# Altium integrated library Linear Technology Power Management System Supervisor, Monitor and Control.IntLib: 1611 symbols (part 86 of 100)
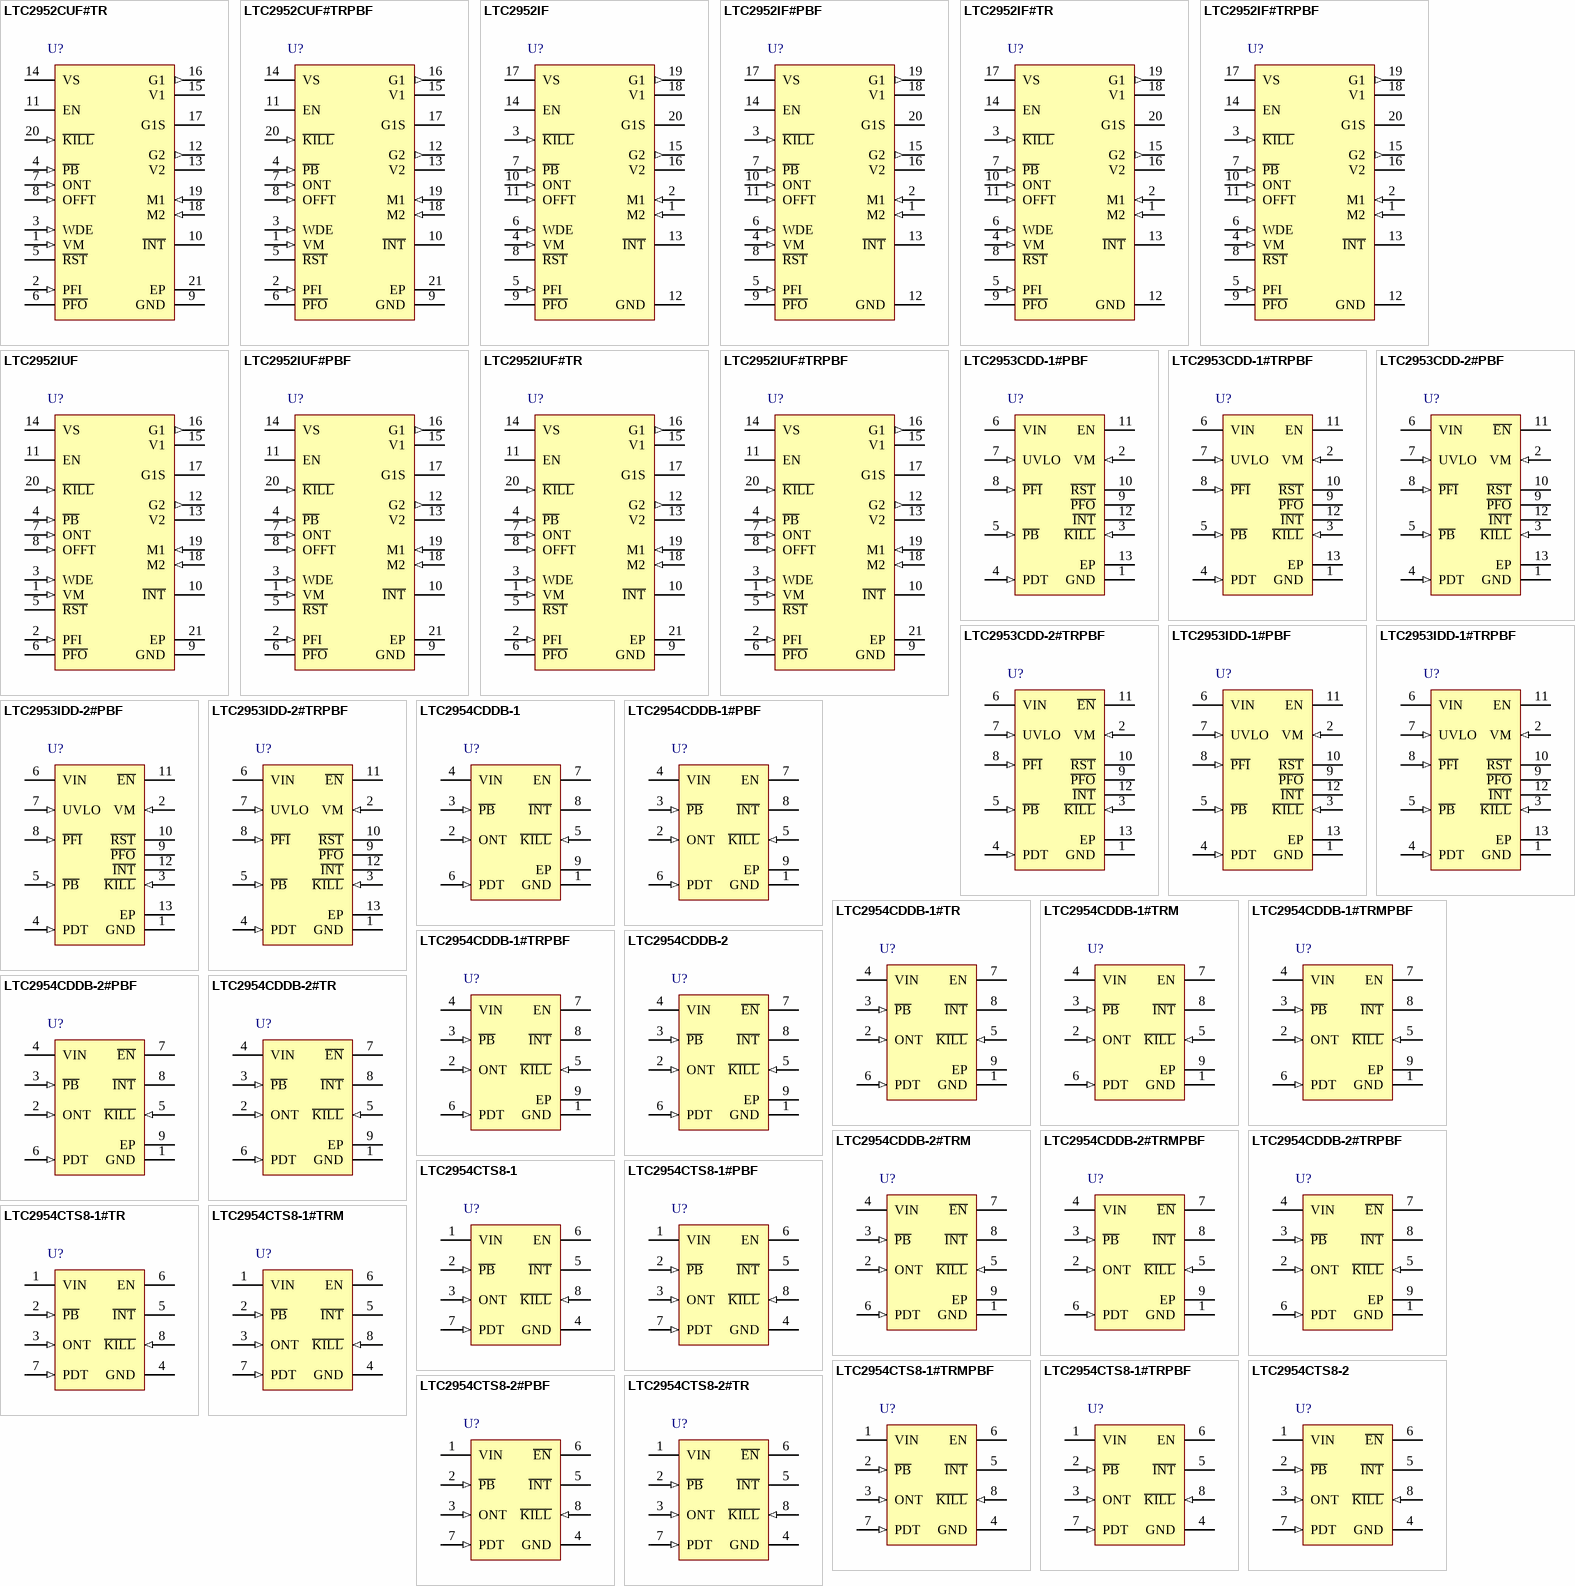
[diagram p130: symbols LTC2952CUF#TR to LTC2954CTS8-2#TR]

## LTC2952CUF#TR
designator U?
Push Button PowerPath Controller with Supervisor, 20-pin QFN (UF-20), 0 to 70 degC, Tape and Reel; Manufacturer: Linear Technology; PartNumber: LTC2952CUF#TR; Number of Supplies(#): 1; DatasheetVersion: Rev. B; PackageVersion: Rev. A, 10/2010; PackageReference: UF20; PackageDescription: 20-Pin Plastic QFN, Body 4 x 4 mm, Pitch 0.5 mm; Packing: Tape and Reel; RoHS: FALSE; Mounting Technology: Surface Mount; Code_JEDEC: MO-220; ComponentLink1Description: Manufacturer URL; ComponentLink1URL: http://www.linear.com/; ComponentLink2Description: Datasheet; ComponentLink2URL: http://cds.linear.com/docs/en/datasheet/2952fb.pdf; ComponentLink3Description: Package Specification; ComponentLink3URL: http://cds.linear.com/docs/en/packaging/QFN_20_05-08-1710.pdf
footprint LT-UF-20_N (QFN, 20-Leads, Body 4.1x4.1mm, Pitch 0.5mm, Thermal Pad 2.45x2.45mm, IPC Medium Density)
footprint LT-UF-20_L (QFN, 20-Leads, Body 4.1x4.1mm, Pitch 0.5mm, Thermal Pad 2.45x2.45mm, IPC High Density)
footprint LT-UF-20_M (QFN, 20-Leads, Body 4.1x4.1mm, Pitch 0.5mm, Thermal Pad 2.45x2.45mm, IPC Low Density)
pins: 1 VM (in) "Voltage Monitor Input. High impedance input to an accurate comparator with a 0.5V threshold. Together with the WDE pin controls the state of the R\S\T\ output pin. Tie to device GND if voltage monitoring function is not used.", 2 PFI (in) "Power Fail Input. High impedance input to an accurate comparator with a 0.5V falling threshold and 15mV hysteresis. This pin controls the state of the P\F\O\ output pin. Tie to device GND if power fail monitoring function is (See Datasheet)", 3 WDE (in) "Watchdog/Extend Input. A three-state input pin. A rising or falling edge must occur on this pin within a 1.6s watchdog timeout period (while the R\S\T\ output is high impedance), to prevent the R\S\T\ pin from going low. The (See Datasheet)", 4 ~{PB} (in) "Pushbutton Input. Input to a comparator with 0.775V falling threshold and 25mV hysteresis. P\B\ has a 10uA internal pull-up to an internal supply (4V). This pin provides on/off power supply control via the EN pin, which is (See Datasheet)", 5 ~{RST} (hiz) "Reset Output. This pin is an open-drain pull-down. Pulls low when VM input is below 0.5V and held low for 200ms after VM input is above 0.5V. Also pulls low for 200ms when the watchdog timer (1.6s) is allowed to time out. (See Datasheet)", 6 ~{PFO} (hiz) "Power Fail Output. This pin is an opendrain pull-down which pulls low when the PFI input is below 0.5V. Leave this pin open or tied to GND if power fail monitoring function is not used.", 7 ONT (in) "On Timing Input. Attach 110pF of external capacitance (CONT) to GND for each additional millisecond of turn-on debounce time beyond the internally set 26ms. Leave open if additional debounce time is not needed.", 8 OFFT (in) "Off Timing Input. Attach 110pF of external capacitance (COFFT) to GND for each additional millisecond of turn-off debounce time beyond the internally set 26ms. Leave open if additional debounce time is not needed.", 9 GND (power) "Device Ground.", 10 ~{INT} (hiz) "Interrupt Output. This pin is an open-drain pull-down pin used to signal the system that a power shutdown is imminent. The I\N\T\ pin asserts low 26ms after the initial falling edge of the pushbutton off event and during the (See Datasheet)", 11 EN (hiz) "DC/DC Enable Output. This pin is a high voltage open-drain pull-down used to control system power. EN pin goes high impedance after an initial turn-on command (via either the digital on or a valid pushbutton on-refer to the (See Datasheet)", 12 G2 (out) "Secondary P-Channel MOSFET Gate Drive Output. When the secondary ideal diode function is enabled and in regulation, the ideal diode controller drives this pin to maintain a forward voltage (VFR) of 20mV between the V2 and VS (See Datasheet)", 13 V2 (power) "Secondary Input Supply Voltage: 2.7V to 28V. Supplies power to the internal circuitry and is the anode input of the secondary ideal diode driver (the cathode input to the ideal diode drivers is the VS pin). A secondary power (See Datasheet)", 14 VS (power) "Power Sense Input. This pin supplies power to the internal circuitry and is the cathode input to the ideal diode drivers (the anode inputs to the ideal diode drivers are the V1 and V2 pins). Bypass this pin to ground with (See Datasheet)", 15 V1 (power) "Primary Input Supply Voltage: 2.7V to 28V. Supplies power to the internal circuitry and is the anode input of the primary ideal diode driver (the cathode input to the ideal diode drivers is the VS pin). A battery or other (See Datasheet)", 16 G1 (out) "Primary P-Channel MOSFET Gate Drive Output. When the primary ideal diode function is enabled and in regulation, the ideal diode controller drives this pin to maintain a forward voltage (VFR) of 20mV between the V1 and VS (See Datasheet)", 17 G1S (hiz) "Open-Drain Primary Ideal Diode Status Output. When the primary P-channel power switch is off, the G1STAT pin will go from an open state to a strong pull-down. This pin can be used to signal the state of the primary ideal (See Datasheet)", 18 M2 (in) "Mode Select Input 2. High impedance input to an accurate comparator with 0.5V falling threshold and 15mV hysteresis. When M1 is low, M2 controls whether the primary (G1) ideal diode function is enabled. When M1 is high, M2 (See Datasheet)", 19 M1 (in) "Mode Select Input 1. Input to an accurate comparator with 0.5V falling threshold and 15mV hysteresis. Has a 3uA internal pull-up to an internal supply (4V). Together with M2 determines the ideal PowerPath and on/off control (See Datasheet)", 20 ~{KILL} (in) "System Power Shutdown Input. Setting this pin low asserts the EN pin low. In modes where M1 is above threshold, setting this pin low also shuts off the ideal diodes. During system turn-on, input to this pin is ignored until (See Datasheet)", 21 EP (power) "The exposed pad may be left open or connected to device ground."

## LTC2952CUF#TRPBF
designator U?
Push Button PowerPath Controller with Supervisor, 20-pin QFN (UF-20), 0 to 70 degC, Pb-Free, Tape and Reel; Manufacturer: Linear Technology; PartNumber: LTC2952CUF#TRPBF; Number of Supplies(#): 1; DatasheetVersion: Rev. B; PackageVersion: Rev. A, 10/2010; PackageReference: UF20; PackageDescription: 20-Pin Plastic QFN, Body 4 x 4 mm, Pitch 0.5 mm; Supplier 1: Digi-Key; Supplier Part Number 1: LTC2952CUF#TRPBF-ND; Supplier 2: Newark; Supplier Part Number 2: 56M7240; Packing: Tape and Reel; RoHS: TRUE; Mounting Technology: Surface Mount; Code_JEDEC: MO-220; ComponentLink1Description: Manufacturer URL; ComponentLink1URL: http://www.linear.com/; ComponentLink2Description: Datasheet; ComponentLink2URL: http://cds.linear.com/docs/en/datasheet/2952fb.pdf; ComponentLink3Description: Package Specification; ComponentLink3URL: http://cds.linear.com/docs/en/packaging/QFN_20_05-08-1710.pdf
footprint LT-UF-20_N (QFN, 20-Leads, Body 4.1x4.1mm, Pitch 0.5mm, Thermal Pad 2.45x2.45mm, IPC Medium Density)
footprint LT-UF-20_L (QFN, 20-Leads, Body 4.1x4.1mm, Pitch 0.5mm, Thermal Pad 2.45x2.45mm, IPC High Density)
footprint LT-UF-20_M (QFN, 20-Leads, Body 4.1x4.1mm, Pitch 0.5mm, Thermal Pad 2.45x2.45mm, IPC Low Density)
pins: 1 VM (in) "Voltage Monitor Input. High impedance input to an accurate comparator with a 0.5V threshold. Together with the WDE pin controls the state of the R\S\T\ output pin. Tie to device GND if voltage monitoring function is not used.", 2 PFI (in) "Power Fail Input. High impedance input to an accurate comparator with a 0.5V falling threshold and 15mV hysteresis. This pin controls the state of the P\F\O\ output pin. Tie to device GND if power fail monitoring function is (See Datasheet)", 3 WDE (in) "Watchdog/Extend Input. A three-state input pin. A rising or falling edge must occur on this pin within a 1.6s watchdog timeout period (while the R\S\T\ output is high impedance), to prevent the R\S\T\ pin from going low. The (See Datasheet)", 4 ~{PB} (in) "Pushbutton Input. Input to a comparator with 0.775V falling threshold and 25mV hysteresis. P\B\ has a 10uA internal pull-up to an internal supply (4V). This pin provides on/off power supply control via the EN pin, which is (See Datasheet)", 5 ~{RST} (hiz) "Reset Output. This pin is an open-drain pull-down. Pulls low when VM input is below 0.5V and held low for 200ms after VM input is above 0.5V. Also pulls low for 200ms when the watchdog timer (1.6s) is allowed to time out. (See Datasheet)", 6 ~{PFO} (hiz) "Power Fail Output. This pin is an opendrain pull-down which pulls low when the PFI input is below 0.5V. Leave this pin open or tied to GND if power fail monitoring function is not used.", 7 ONT (in) "On Timing Input. Attach 110pF of external capacitance (CONT) to GND for each additional millisecond of turn-on debounce time beyond the internally set 26ms. Leave open if additional debounce time is not needed.", 8 OFFT (in) "Off Timing Input. Attach 110pF of external capacitance (COFFT) to GND for each additional millisecond of turn-off debounce time beyond the internally set 26ms. Leave open if additional debounce time is not needed.", 9 GND (power) "Device Ground.", 10 ~{INT} (hiz) "Interrupt Output. This pin is an open-drain pull-down pin used to signal the system that a power shutdown is imminent. The I\N\T\ pin asserts low 26ms after the initial falling edge of the pushbutton off event and during the (See Datasheet)", 11 EN (hiz) "DC/DC Enable Output. This pin is a high voltage open-drain pull-down used to control system power. EN pin goes high impedance after an initial turn-on command (via either the digital on or a valid pushbutton on-refer to the (See Datasheet)", 12 G2 (out) "Secondary P-Channel MOSFET Gate Drive Output. When the secondary ideal diode function is enabled and in regulation, the ideal diode controller drives this pin to maintain a forward voltage (VFR) of 20mV between the V2 and VS (See Datasheet)", 13 V2 (power) "Secondary Input Supply Voltage: 2.7V to 28V. Supplies power to the internal circuitry and is the anode input of the secondary ideal diode driver (the cathode input to the ideal diode drivers is the VS pin). A secondary power (See Datasheet)", 14 VS (power) "Power Sense Input. This pin supplies power to the internal circuitry and is the cathode input to the ideal diode drivers (the anode inputs to the ideal diode drivers are the V1 and V2 pins). Bypass this pin to ground with (See Datasheet)", 15 V1 (power) "Primary Input Supply Voltage: 2.7V to 28V. Supplies power to the internal circuitry and is the anode input of the primary ideal diode driver (the cathode input to the ideal diode drivers is the VS pin). A battery or other (See Datasheet)", 16 G1 (out) "Primary P-Channel MOSFET Gate Drive Output. When the primary ideal diode function is enabled and in regulation, the ideal diode controller drives this pin to maintain a forward voltage (VFR) of 20mV between the V1 and VS (See Datasheet)", 17 G1S (hiz) "Open-Drain Primary Ideal Diode Status Output. When the primary P-channel power switch is off, the G1STAT pin will go from an open state to a strong pull-down. This pin can be used to signal the state of the primary ideal (See Datasheet)", 18 M2 (in) "Mode Select Input 2. High impedance input to an accurate comparator with 0.5V falling threshold and 15mV hysteresis. When M1 is low, M2 controls whether the primary (G1) ideal diode function is enabled. When M1 is high, M2 (See Datasheet)", 19 M1 (in) "Mode Select Input 1. Input to an accurate comparator with 0.5V falling threshold and 15mV hysteresis. Has a 3uA internal pull-up to an internal supply (4V). Together with M2 determines the ideal PowerPath and on/off control (See Datasheet)", 20 ~{KILL} (in) "System Power Shutdown Input. Setting this pin low asserts the EN pin low. In modes where M1 is above threshold, setting this pin low also shuts off the ideal diodes. During system turn-on, input to this pin is ignored until (See Datasheet)", 21 EP (power) "The exposed pad may be left open or connected to device ground."

## LTC2952IF
designator U?
Push Button PowerPath Controller with Supervisor, 20-pin SOP (F-20), -40 to 85 degC; Manufacturer: Linear Technology; PartNumber: LTC2952IF; Number of Supplies(#): 1; DatasheetVersion: Rev. B; PackageVersion: Jun-10; PackageReference: F-20; PackageDescription: 20-Pin Plastic TSSOP, Body 6.5 x 4.4 mm, Pitch 0.65 mm; RoHS: FALSE; Mounting Technology: Surface Mount; ComponentLink1Description: Manufacturer URL; ComponentLink1URL: http://www.linear.com/; ComponentLink2Description: Datasheet; ComponentLink2URL: http://cds.linear.com/docs/en/datasheet/2952fb.pdf; ComponentLink3Description: Package Specification; ComponentLink3URL: http://cds.linear.com/docs/en/packaging/TSSOP_20_05-08-1650.pdf
footprint LT-F-20_N (SOP, 20-Leads, Body 6.6x4.5mm, Pitch 0.65mm, IPC Medium Density)
footprint LT-F-20_L (SOP, 20-Leads, Body 6.6x4.5mm, Pitch 0.65mm, IPC High Density)
footprint LT-F-20_M (SOP, 20-Leads, Body 6.6x4.5mm, Pitch 0.65mm, IPC Low Density)
pins: 1 M2 (in) "Mode Select Input 2. High impedance input to an accurate comparator with 0.5V falling threshold and 15mV hysteresis. When M1 is low, M2 controls whether the primary (G1) ideal diode function is enabled. When M1 is high, M2 (See Datasheet)", 2 M1 (in) "Mode Select Input 1. Input to an accurate comparator with 0.5V falling threshold and 15mV hysteresis. Has a 3uA internal pull-up to an internal supply (4V). Together with M2 determines the ideal PowerPath and on/off control (See Datasheet)", 3 ~{KILL} (in) "System Power Shutdown Input. Setting this pin low asserts the EN pin low. In modes where M1 is above threshold, setting this pin low also shuts off the ideal diodes. During system turn-on, input to this pin is ignored until (See Datasheet)", 4 VM (in) "Voltage Monitor Input. High impedance input to an accurate comparator with a 0.5V threshold. Together with the WDE pin controls the state of the R\S\T\ output pin. Tie to device GND if voltage monitoring function is not used.", 5 PFI (in) "Power Fail Input. High impedance input to an accurate comparator with a 0.5V falling threshold and 15mV hysteresis. This pin controls the state of the P\F\O\ output pin. Tie to device GND if power fail monitoring function is (See Datasheet)", 6 WDE (in) "Watchdog/Extend Input. A three-state input pin. A rising or falling edge must occur on this pin within a 1.6s watchdog timeout period (while the R\S\T\ output is high impedance), to prevent the R\S\T\ pin from going low. The (See Datasheet)", 7 ~{PB} (in) "Pushbutton Input. Input to a comparator with 0.775V falling threshold and 25mV hysteresis. P\B\ has a 10uA internal pull-up to an internal supply (4V). This pin provides on/off power supply control via the EN pin, which is (See Datasheet)", 8 ~{RST} (hiz) "Reset Output. This pin is an open-drain pull-down. Pulls low when VM input is below 0.5V and held low for 200ms after VM input is above 0.5V. Also pulls low for 200ms when the watchdog timer (1.6s) is allowed to time out. (See Datasheet)", 9 ~{PFO} (hiz) "Power Fail Output. This pin is an opendrain pull-down which pulls low when the PFI input is below 0.5V. Leave this pin open or tied to GND if power fail monitoring function is not used.", 10 ONT (in) "On Timing Input. Attach 110pF of external capacitance (CONT) to GND for each additional millisecond of turn-on debounce time beyond the internally set 26ms. Leave open if additional debounce time is not needed.", 11 OFFT (in) "Off Timing Input. Attach 110pF of external capacitance (COFFT) to GND for each additional millisecond of turn-off debounce time beyond the internally set 26ms. Leave open if additional debounce time is not needed.", 12 GND (power) "Device Ground.", 13 ~{INT} (hiz) "Interrupt Output. This pin is an open-drain pull-down pin used to signal the system that a power shutdown is imminent. The I\N\T\ pin asserts low 26ms after the initial falling edge of the pushbutton off event and during the (See Datasheet)", 14 EN (hiz) "DC/DC Enable Output. This pin is a high voltage open-drain pull-down used to control system power. EN pin goes high impedance after an initial turn-on command (via either the digital on or a valid pushbutton on-refer to the (See Datasheet)", 15 G2 (out) "Secondary P-Channel MOSFET Gate Drive Output. When the secondary ideal diode function is enabled and in regulation, the ideal diode controller drives this pin to maintain a forward voltage (VFR) of 20mV between the V2 and VS (See Datasheet)", 16 V2 (power) "Secondary Input Supply Voltage: 2.7V to 28V. Supplies power to the internal circuitry and is the anode input of the secondary ideal diode driver (the cathode input to the ideal diode drivers is the VS pin). A secondary power (See Datasheet)", 17 VS (power) "Power Sense Input. This pin supplies power to the internal circuitry and is the cathode input to the ideal diode drivers (the anode inputs to the ideal diode drivers are the V1 and V2 pins). Bypass this pin to ground with (See Datasheet)", 18 V1 (power) "Primary Input Supply Voltage: 2.7V to 28V. Supplies power to the internal circuitry and is the anode input of the primary ideal diode driver (the cathode input to the ideal diode drivers is the VS pin). A battery or other (See Datasheet)", 19 G1 (out) "Primary P-Channel MOSFET Gate Drive Output. When the primary ideal diode function is enabled and in regulation, the ideal diode controller drives this pin to maintain a forward voltage (VFR) of 20mV between the V1 and VS (See Datasheet)", 20 G1S (hiz) "Open-Drain Primary Ideal Diode Status Output. When the primary P-channel power switch is off, the G1STAT pin will go from an open state to a strong pull-down. This pin can be used to signal the state of the primary ideal (See Datasheet)"

## LTC2952IF#PBF
designator U?
Push Button PowerPath Controller with Supervisor, 20-pin SOP (F-20), -40 to 85 degC, Pb-Free; Manufacturer: Linear Technology; PartNumber: LTC2952IF#PBF; Number of Supplies(#): 1; DatasheetVersion: Rev. B; PackageVersion: Jun-10; PackageReference: F-20; PackageDescription: 20-Pin Plastic TSSOP, Body 6.5 x 4.4 mm, Pitch 0.65 mm; Supplier 1: Digi-Key; Supplier Part Number 1: LTC2952IF#PBF-ND; Supplier 2: Newark; Supplier Part Number 2: 56M7242; RoHS: TRUE; Mounting Technology: Surface Mount; ComponentLink1Description: Manufacturer URL; ComponentLink1URL: http://www.linear.com/; ComponentLink2Description: Datasheet; ComponentLink2URL: http://cds.linear.com/docs/en/datasheet/2952fb.pdf; ComponentLink3Description: Package Specification; ComponentLink3URL: http://cds.linear.com/docs/en/packaging/TSSOP_20_05-08-1650.pdf
footprint LT-F-20_N (SOP, 20-Leads, Body 6.6x4.5mm, Pitch 0.65mm, IPC Medium Density)
footprint LT-F-20_L (SOP, 20-Leads, Body 6.6x4.5mm, Pitch 0.65mm, IPC High Density)
footprint LT-F-20_M (SOP, 20-Leads, Body 6.6x4.5mm, Pitch 0.65mm, IPC Low Density)
pins: 1 M2 (in) "Mode Select Input 2. High impedance input to an accurate comparator with 0.5V falling threshold and 15mV hysteresis. When M1 is low, M2 controls whether the primary (G1) ideal diode function is enabled. When M1 is high, M2 (See Datasheet)", 2 M1 (in) "Mode Select Input 1. Input to an accurate comparator with 0.5V falling threshold and 15mV hysteresis. Has a 3uA internal pull-up to an internal supply (4V). Together with M2 determines the ideal PowerPath and on/off control (See Datasheet)", 3 ~{KILL} (in) "System Power Shutdown Input. Setting this pin low asserts the EN pin low. In modes where M1 is above threshold, setting this pin low also shuts off the ideal diodes. During system turn-on, input to this pin is ignored until (See Datasheet)", 4 VM (in) "Voltage Monitor Input. High impedance input to an accurate comparator with a 0.5V threshold. Together with the WDE pin controls the state of the R\S\T\ output pin. Tie to device GND if voltage monitoring function is not used.", 5 PFI (in) "Power Fail Input. High impedance input to an accurate comparator with a 0.5V falling threshold and 15mV hysteresis. This pin controls the state of the P\F\O\ output pin. Tie to device GND if power fail monitoring function is (See Datasheet)", 6 WDE (in) "Watchdog/Extend Input. A three-state input pin. A rising or falling edge must occur on this pin within a 1.6s watchdog timeout period (while the R\S\T\ output is high impedance), to prevent the R\S\T\ pin from going low. The (See Datasheet)", 7 ~{PB} (in) "Pushbutton Input. Input to a comparator with 0.775V falling threshold and 25mV hysteresis. P\B\ has a 10uA internal pull-up to an internal supply (4V). This pin provides on/off power supply control via the EN pin, which is (See Datasheet)", 8 ~{RST} (hiz) "Reset Output. This pin is an open-drain pull-down. Pulls low when VM input is below 0.5V and held low for 200ms after VM input is above 0.5V. Also pulls low for 200ms when the watchdog timer (1.6s) is allowed to time out. (See Datasheet)", 9 ~{PFO} (hiz) "Power Fail Output. This pin is an opendrain pull-down which pulls low when the PFI input is below 0.5V. Leave this pin open or tied to GND if power fail monitoring function is not used.", 10 ONT (in) "On Timing Input. Attach 110pF of external capacitance (CONT) to GND for each additional millisecond of turn-on debounce time beyond the internally set 26ms. Leave open if additional debounce time is not needed.", 11 OFFT (in) "Off Timing Input. Attach 110pF of external capacitance (COFFT) to GND for each additional millisecond of turn-off debounce time beyond the internally set 26ms. Leave open if additional debounce time is not needed.", 12 GND (power) "Device Ground.", 13 ~{INT} (hiz) "Interrupt Output. This pin is an open-drain pull-down pin used to signal the system that a power shutdown is imminent. The I\N\T\ pin asserts low 26ms after the initial falling edge of the pushbutton off event and during the (See Datasheet)", 14 EN (hiz) "DC/DC Enable Output. This pin is a high voltage open-drain pull-down used to control system power. EN pin goes high impedance after an initial turn-on command (via either the digital on or a valid pushbutton on-refer to the (See Datasheet)", 15 G2 (out) "Secondary P-Channel MOSFET Gate Drive Output. When the secondary ideal diode function is enabled and in regulation, the ideal diode controller drives this pin to maintain a forward voltage (VFR) of 20mV between the V2 and VS (See Datasheet)", 16 V2 (power) "Secondary Input Supply Voltage: 2.7V to 28V. Supplies power to the internal circuitry and is the anode input of the secondary ideal diode driver (the cathode input to the ideal diode drivers is the VS pin). A secondary power (See Datasheet)", 17 VS (power) "Power Sense Input. This pin supplies power to the internal circuitry and is the cathode input to the ideal diode drivers (the anode inputs to the ideal diode drivers are the V1 and V2 pins). Bypass this pin to ground with (See Datasheet)", 18 V1 (power) "Primary Input Supply Voltage: 2.7V to 28V. Supplies power to the internal circuitry and is the anode input of the primary ideal diode driver (the cathode input to the ideal diode drivers is the VS pin). A battery or other (See Datasheet)", 19 G1 (out) "Primary P-Channel MOSFET Gate Drive Output. When the primary ideal diode function is enabled and in regulation, the ideal diode controller drives this pin to maintain a forward voltage (VFR) of 20mV between the V1 and VS (See Datasheet)", 20 G1S (hiz) "Open-Drain Primary Ideal Diode Status Output. When the primary P-channel power switch is off, the G1STAT pin will go from an open state to a strong pull-down. This pin can be used to signal the state of the primary ideal (See Datasheet)"

## LTC2952IF#TR
designator U?
Push Button PowerPath Controller with Supervisor, 20-pin SOP (F-20), -40 to 85 degC, Tape and Reel; Manufacturer: Linear Technology; PartNumber: LTC2952IF#TR; Number of Supplies(#): 1; DatasheetVersion: Rev. B; PackageVersion: Jun-10; PackageReference: F-20; PackageDescription: 20-Pin Plastic TSSOP, Body 6.5 x 4.4 mm, Pitch 0.65 mm; Packing: Tape and Reel; RoHS: FALSE; Mounting Technology: Surface Mount; ComponentLink1Description: Manufacturer URL; ComponentLink1URL: http://www.linear.com/; ComponentLink2Description: Datasheet; ComponentLink2URL: http://cds.linear.com/docs/en/datasheet/2952fb.pdf; ComponentLink3Description: Package Specification; ComponentLink3URL: http://cds.linear.com/docs/en/packaging/TSSOP_20_05-08-1650.pdf
footprint LT-F-20_N (SOP, 20-Leads, Body 6.6x4.5mm, Pitch 0.65mm, IPC Medium Density)
footprint LT-F-20_L (SOP, 20-Leads, Body 6.6x4.5mm, Pitch 0.65mm, IPC High Density)
footprint LT-F-20_M (SOP, 20-Leads, Body 6.6x4.5mm, Pitch 0.65mm, IPC Low Density)
pins: 1 M2 (in) "Mode Select Input 2. High impedance input to an accurate comparator with 0.5V falling threshold and 15mV hysteresis. When M1 is low, M2 controls whether the primary (G1) ideal diode function is enabled. When M1 is high, M2 (See Datasheet)", 2 M1 (in) "Mode Select Input 1. Input to an accurate comparator with 0.5V falling threshold and 15mV hysteresis. Has a 3uA internal pull-up to an internal supply (4V). Together with M2 determines the ideal PowerPath and on/off control (See Datasheet)", 3 ~{KILL} (in) "System Power Shutdown Input. Setting this pin low asserts the EN pin low. In modes where M1 is above threshold, setting this pin low also shuts off the ideal diodes. During system turn-on, input to this pin is ignored until (See Datasheet)", 4 VM (in) "Voltage Monitor Input. High impedance input to an accurate comparator with a 0.5V threshold. Together with the WDE pin controls the state of the R\S\T\ output pin. Tie to device GND if voltage monitoring function is not used.", 5 PFI (in) "Power Fail Input. High impedance input to an accurate comparator with a 0.5V falling threshold and 15mV hysteresis. This pin controls the state of the P\F\O\ output pin. Tie to device GND if power fail monitoring function is (See Datasheet)", 6 WDE (in) "Watchdog/Extend Input. A three-state input pin. A rising or falling edge must occur on this pin within a 1.6s watchdog timeout period (while the R\S\T\ output is high impedance), to prevent the R\S\T\ pin from going low. The (See Datasheet)", 7 ~{PB} (in) "Pushbutton Input. Input to a comparator with 0.775V falling threshold and 25mV hysteresis. P\B\ has a 10uA internal pull-up to an internal supply (4V). This pin provides on/off power supply control via the EN pin, which is (See Datasheet)", 8 ~{RST} (hiz) "Reset Output. This pin is an open-drain pull-down. Pulls low when VM input is below 0.5V and held low for 200ms after VM input is above 0.5V. Also pulls low for 200ms when the watchdog timer (1.6s) is allowed to time out. (See Datasheet)", 9 ~{PFO} (hiz) "Power Fail Output. This pin is an opendrain pull-down which pulls low when the PFI input is below 0.5V. Leave this pin open or tied to GND if power fail monitoring function is not used.", 10 ONT (in) "On Timing Input. Attach 110pF of external capacitance (CONT) to GND for each additional millisecond of turn-on debounce time beyond the internally set 26ms. Leave open if additional debounce time is not needed.", 11 OFFT (in) "Off Timing Input. Attach 110pF of external capacitance (COFFT) to GND for each additional millisecond of turn-off debounce time beyond the internally set 26ms. Leave open if additional debounce time is not needed.", 12 GND (power) "Device Ground.", 13 ~{INT} (hiz) "Interrupt Output. This pin is an open-drain pull-down pin used to signal the system that a power shutdown is imminent. The I\N\T\ pin asserts low 26ms after the initial falling edge of the pushbutton off event and during the (See Datasheet)", 14 EN (hiz) "DC/DC Enable Output. This pin is a high voltage open-drain pull-down used to control system power. EN pin goes high impedance after an initial turn-on command (via either the digital on or a valid pushbutton on-refer to the (See Datasheet)", 15 G2 (out) "Secondary P-Channel MOSFET Gate Drive Output. When the secondary ideal diode function is enabled and in regulation, the ideal diode controller drives this pin to maintain a forward voltage (VFR) of 20mV between the V2 and VS (See Datasheet)", 16 V2 (power) "Secondary Input Supply Voltage: 2.7V to 28V. Supplies power to the internal circuitry and is the anode input of the secondary ideal diode driver (the cathode input to the ideal diode drivers is the VS pin). A secondary power (See Datasheet)", 17 VS (power) "Power Sense Input. This pin supplies power to the internal circuitry and is the cathode input to the ideal diode drivers (the anode inputs to the ideal diode drivers are the V1 and V2 pins). Bypass this pin to ground with (See Datasheet)", 18 V1 (power) "Primary Input Supply Voltage: 2.7V to 28V. Supplies power to the internal circuitry and is the anode input of the primary ideal diode driver (the cathode input to the ideal diode drivers is the VS pin). A battery or other (See Datasheet)", 19 G1 (out) "Primary P-Channel MOSFET Gate Drive Output. When the primary ideal diode function is enabled and in regulation, the ideal diode controller drives this pin to maintain a forward voltage (VFR) of 20mV between the V1 and VS (See Datasheet)", 20 G1S (hiz) "Open-Drain Primary Ideal Diode Status Output. When the primary P-channel power switch is off, the G1STAT pin will go from an open state to a strong pull-down. This pin can be used to signal the state of the primary ideal (See Datasheet)"

## LTC2952IF#TRPBF
designator U?
Push Button PowerPath Controller with Supervisor, 20-pin SOP (F-20), -40 to 85 degC, Pb-Free, Tape and Reel; Manufacturer: Linear Technology; PartNumber: LTC2952IF#TRPBF; Number of Supplies(#): 1; DatasheetVersion: Rev. B; PackageVersion: Jun-10; PackageReference: F-20; PackageDescription: 20-Pin Plastic TSSOP, Body 6.5 x 4.4 mm, Pitch 0.65 mm; Supplier 1: Digi-Key; Supplier Part Number 1: LTC2952IF#TRPBF-ND; Packing: Tape and Reel; RoHS: TRUE; Mounting Technology: Surface Mount; ComponentLink1Description: Manufacturer URL; ComponentLink1URL: http://www.linear.com/; ComponentLink2Description: Datasheet; ComponentLink2URL: http://cds.linear.com/docs/en/datasheet/2952fb.pdf; ComponentLink3Description: Package Specification; ComponentLink3URL: http://cds.linear.com/docs/en/packaging/TSSOP_20_05-08-1650.pdf
footprint LT-F-20_N (SOP, 20-Leads, Body 6.6x4.5mm, Pitch 0.65mm, IPC Medium Density)
footprint LT-F-20_L (SOP, 20-Leads, Body 6.6x4.5mm, Pitch 0.65mm, IPC High Density)
footprint LT-F-20_M (SOP, 20-Leads, Body 6.6x4.5mm, Pitch 0.65mm, IPC Low Density)
pins: 1 M2 (in) "Mode Select Input 2. High impedance input to an accurate comparator with 0.5V falling threshold and 15mV hysteresis. When M1 is low, M2 controls whether the primary (G1) ideal diode function is enabled. When M1 is high, M2 (See Datasheet)", 2 M1 (in) "Mode Select Input 1. Input to an accurate comparator with 0.5V falling threshold and 15mV hysteresis. Has a 3uA internal pull-up to an internal supply (4V). Together with M2 determines the ideal PowerPath and on/off control (See Datasheet)", 3 ~{KILL} (in) "System Power Shutdown Input. Setting this pin low asserts the EN pin low. In modes where M1 is above threshold, setting this pin low also shuts off the ideal diodes. During system turn-on, input to this pin is ignored until (See Datasheet)", 4 VM (in) "Voltage Monitor Input. High impedance input to an accurate comparator with a 0.5V threshold. Together with the WDE pin controls the state of the R\S\T\ output pin. Tie to device GND if voltage monitoring function is not used.", 5 PFI (in) "Power Fail Input. High impedance input to an accurate comparator with a 0.5V falling threshold and 15mV hysteresis. This pin controls the state of the P\F\O\ output pin. Tie to device GND if power fail monitoring function is (See Datasheet)", 6 WDE (in) "Watchdog/Extend Input. A three-state input pin. A rising or falling edge must occur on this pin within a 1.6s watchdog timeout period (while the R\S\T\ output is high impedance), to prevent the R\S\T\ pin from going low. The (See Datasheet)", 7 ~{PB} (in) "Pushbutton Input. Input to a comparator with 0.775V falling threshold and 25mV hysteresis. P\B\ has a 10uA internal pull-up to an internal supply (4V). This pin provides on/off power supply control via the EN pin, which is (See Datasheet)", 8 ~{RST} (hiz) "Reset Output. This pin is an open-drain pull-down. Pulls low when VM input is below 0.5V and held low for 200ms after VM input is above 0.5V. Also pulls low for 200ms when the watchdog timer (1.6s) is allowed to time out. (See Datasheet)", 9 ~{PFO} (hiz) "Power Fail Output. This pin is an opendrain pull-down which pulls low when the PFI input is below 0.5V. Leave this pin open or tied to GND if power fail monitoring function is not used.", 10 ONT (in) "On Timing Input. Attach 110pF of external capacitance (CONT) to GND for each additional millisecond of turn-on debounce time beyond the internally set 26ms. Leave open if additional debounce time is not needed.", 11 OFFT (in) "Off Timing Input. Attach 110pF of external capacitance (COFFT) to GND for each additional millisecond of turn-off debounce time beyond the internally set 26ms. Leave open if additional debounce time is not needed.", 12 GND (power) "Device Ground.", 13 ~{INT} (hiz) "Interrupt Output. This pin is an open-drain pull-down pin used to signal the system that a power shutdown is imminent. The I\N\T\ pin asserts low 26ms after the initial falling edge of the pushbutton off event and during the (See Datasheet)", 14 EN (hiz) "DC/DC Enable Output. This pin is a high voltage open-drain pull-down used to control system power. EN pin goes high impedance after an initial turn-on command (via either the digital on or a valid pushbutton on-refer to the (See Datasheet)", 15 G2 (out) "Secondary P-Channel MOSFET Gate Drive Output. When the secondary ideal diode function is enabled and in regulation, the ideal diode controller drives this pin to maintain a forward voltage (VFR) of 20mV between the V2 and VS (See Datasheet)", 16 V2 (power) "Secondary Input Supply Voltage: 2.7V to 28V. Supplies power to the internal circuitry and is the anode input of the secondary ideal diode driver (the cathode input to the ideal diode drivers is the VS pin). A secondary power (See Datasheet)", 17 VS (power) "Power Sense Input. This pin supplies power to the internal circuitry and is the cathode input to the ideal diode drivers (the anode inputs to the ideal diode drivers are the V1 and V2 pins). Bypass this pin to ground with (See Datasheet)", 18 V1 (power) "Primary Input Supply Voltage: 2.7V to 28V. Supplies power to the internal circuitry and is the anode input of the primary ideal diode driver (the cathode input to the ideal diode drivers is the VS pin). A battery or other (See Datasheet)", 19 G1 (out) "Primary P-Channel MOSFET Gate Drive Output. When the primary ideal diode function is enabled and in regulation, the ideal diode controller drives this pin to maintain a forward voltage (VFR) of 20mV between the V1 and VS (See Datasheet)", 20 G1S (hiz) "Open-Drain Primary Ideal Diode Status Output. When the primary P-channel power switch is off, the G1STAT pin will go from an open state to a strong pull-down. This pin can be used to signal the state of the primary ideal (See Datasheet)"

## LTC2952IUF
designator U?
Push Button PowerPath Controller with Supervisor, 20-pin QFN (UF-20), -40 to 85 degC; Manufacturer: Linear Technology; PartNumber: LTC2952IUF; Number of Supplies(#): 1; DatasheetVersion: Rev. B; PackageVersion: Rev. A, 10/2010; PackageReference: UF20; PackageDescription: 20-Pin Plastic QFN, Body 4 x 4 mm, Pitch 0.5 mm; RoHS: FALSE; Mounting Technology: Surface Mount; Code_JEDEC: MO-220; ComponentLink1Description: Manufacturer URL; ComponentLink1URL: http://www.linear.com/; ComponentLink2Description: Datasheet; ComponentLink2URL: http://cds.linear.com/docs/en/datasheet/2952fb.pdf; ComponentLink3Description: Package Specification; ComponentLink3URL: http://cds.linear.com/docs/en/packaging/QFN_20_05-08-1710.pdf
footprint LT-UF-20_N (QFN, 20-Leads, Body 4.1x4.1mm, Pitch 0.5mm, Thermal Pad 2.45x2.45mm, IPC Medium Density)
footprint LT-UF-20_L (QFN, 20-Leads, Body 4.1x4.1mm, Pitch 0.5mm, Thermal Pad 2.45x2.45mm, IPC High Density)
footprint LT-UF-20_M (QFN, 20-Leads, Body 4.1x4.1mm, Pitch 0.5mm, Thermal Pad 2.45x2.45mm, IPC Low Density)
pins: 1 VM (in) "Voltage Monitor Input. High impedance input to an accurate comparator with a 0.5V threshold. Together with the WDE pin controls the state of the R\S\T\ output pin. Tie to device GND if voltage monitoring function is not used.", 2 PFI (in) "Power Fail Input. High impedance input to an accurate comparator with a 0.5V falling threshold and 15mV hysteresis. This pin controls the state of the P\F\O\ output pin. Tie to device GND if power fail monitoring function is (See Datasheet)", 3 WDE (in) "Watchdog/Extend Input. A three-state input pin. A rising or falling edge must occur on this pin within a 1.6s watchdog timeout period (while the R\S\T\ output is high impedance), to prevent the R\S\T\ pin from going low. The (See Datasheet)", 4 ~{PB} (in) "Pushbutton Input. Input to a comparator with 0.775V falling threshold and 25mV hysteresis. P\B\ has a 10uA internal pull-up to an internal supply (4V). This pin provides on/off power supply control via the EN pin, which is (See Datasheet)", 5 ~{RST} (hiz) "Reset Output. This pin is an open-drain pull-down. Pulls low when VM input is below 0.5V and held low for 200ms after VM input is above 0.5V. Also pulls low for 200ms when the watchdog timer (1.6s) is allowed to time out. (See Datasheet)", 6 ~{PFO} (hiz) "Power Fail Output. This pin is an opendrain pull-down which pulls low when the PFI input is below 0.5V. Leave this pin open or tied to GND if power fail monitoring function is not used.", 7 ONT (in) "On Timing Input. Attach 110pF of external capacitance (CONT) to GND for each additional millisecond of turn-on debounce time beyond the internally set 26ms. Leave open if additional debounce time is not needed.", 8 OFFT (in) "Off Timing Input. Attach 110pF of external capacitance (COFFT) to GND for each additional millisecond of turn-off debounce time beyond the internally set 26ms. Leave open if additional debounce time is not needed.", 9 GND (power) "Device Ground.", 10 ~{INT} (hiz) "Interrupt Output. This pin is an open-drain pull-down pin used to signal the system that a power shutdown is imminent. The I\N\T\ pin asserts low 26ms after the initial falling edge of the pushbutton off event and during the (See Datasheet)", 11 EN (hiz) "DC/DC Enable Output. This pin is a high voltage open-drain pull-down used to control system power. EN pin goes high impedance after an initial turn-on command (via either the digital on or a valid pushbutton on-refer to the (See Datasheet)", 12 G2 (out) "Secondary P-Channel MOSFET Gate Drive Output. When the secondary ideal diode function is enabled and in regulation, the ideal diode controller drives this pin to maintain a forward voltage (VFR) of 20mV between the V2 and VS (See Datasheet)", 13 V2 (power) "Secondary Input Supply Voltage: 2.7V to 28V. Supplies power to the internal circuitry and is the anode input of the secondary ideal diode driver (the cathode input to the ideal diode drivers is the VS pin). A secondary power (See Datasheet)", 14 VS (power) "Power Sense Input. This pin supplies power to the internal circuitry and is the cathode input to the ideal diode drivers (the anode inputs to the ideal diode drivers are the V1 and V2 pins). Bypass this pin to ground with (See Datasheet)", 15 V1 (power) "Primary Input Supply Voltage: 2.7V to 28V. Supplies power to the internal circuitry and is the anode input of the primary ideal diode driver (the cathode input to the ideal diode drivers is the VS pin). A battery or other (See Datasheet)", 16 G1 (out) "Primary P-Channel MOSFET Gate Drive Output. When the primary ideal diode function is enabled and in regulation, the ideal diode controller drives this pin to maintain a forward voltage (VFR) of 20mV between the V1 and VS (See Datasheet)", 17 G1S (hiz) "Open-Drain Primary Ideal Diode Status Output. When the primary P-channel power switch is off, the G1STAT pin will go from an open state to a strong pull-down. This pin can be used to signal the state of the primary ideal (See Datasheet)", 18 M2 (in) "Mode Select Input 2. High impedance input to an accurate comparator with 0.5V falling threshold and 15mV hysteresis. When M1 is low, M2 controls whether the primary (G1) ideal diode function is enabled. When M1 is high, M2 (See Datasheet)", 19 M1 (in) "Mode Select Input 1. Input to an accurate comparator with 0.5V falling threshold and 15mV hysteresis. Has a 3uA internal pull-up to an internal supply (4V). Together with M2 determines the ideal PowerPath and on/off control (See Datasheet)", 20 ~{KILL} (in) "System Power Shutdown Input. Setting this pin low asserts the EN pin low. In modes where M1 is above threshold, setting this pin low also shuts off the ideal diodes. During system turn-on, input to this pin is ignored until (See Datasheet)", 21 EP (power) "The exposed pad may be left open or connected to device ground."

## LTC2952IUF#PBF
designator U?
Push Button PowerPath Controller with Supervisor, 20-pin QFN (UF-20), -40 to 85 degC, Pb-Free; Manufacturer: Linear Technology; PartNumber: LTC2952IUF#PBF; Number of Supplies(#): 1; DatasheetVersion: Rev. B; PackageVersion: Rev. A, 10/2010; PackageReference: UF20; PackageDescription: 20-Pin Plastic QFN, Body 4 x 4 mm, Pitch 0.5 mm; Supplier 1: Digi-Key; Supplier Part Number 1: LTC2952IUF#PBF-ND; Supplier 2: Farnell; Supplier Part Number 2: 2295452; RoHS: TRUE; Mounting Technology: Surface Mount; Code_JEDEC: MO-220; ComponentLink1Description: Manufacturer URL; ComponentLink1URL: http://www.linear.com/; ComponentLink2Description: Datasheet; ComponentLink2URL: http://cds.linear.com/docs/en/datasheet/2952fb.pdf; ComponentLink3Description: Package Specification; ComponentLink3URL: http://cds.linear.com/docs/en/packaging/QFN_20_05-08-1710.pdf
footprint LT-UF-20_N (QFN, 20-Leads, Body 4.1x4.1mm, Pitch 0.5mm, Thermal Pad 2.45x2.45mm, IPC Medium Density)
footprint LT-UF-20_L (QFN, 20-Leads, Body 4.1x4.1mm, Pitch 0.5mm, Thermal Pad 2.45x2.45mm, IPC High Density)
footprint LT-UF-20_M (QFN, 20-Leads, Body 4.1x4.1mm, Pitch 0.5mm, Thermal Pad 2.45x2.45mm, IPC Low Density)
pins: 1 VM (in) "Voltage Monitor Input. High impedance input to an accurate comparator with a 0.5V threshold. Together with the WDE pin controls the state of the R\S\T\ output pin. Tie to device GND if voltage monitoring function is not used.", 2 PFI (in) "Power Fail Input. High impedance input to an accurate comparator with a 0.5V falling threshold and 15mV hysteresis. This pin controls the state of the P\F\O\ output pin. Tie to device GND if power fail monitoring function is (See Datasheet)", 3 WDE (in) "Watchdog/Extend Input. A three-state input pin. A rising or falling edge must occur on this pin within a 1.6s watchdog timeout period (while the R\S\T\ output is high impedance), to prevent the R\S\T\ pin from going low. The (See Datasheet)", 4 ~{PB} (in) "Pushbutton Input. Input to a comparator with 0.775V falling threshold and 25mV hysteresis. P\B\ has a 10uA internal pull-up to an internal supply (4V). This pin provides on/off power supply control via the EN pin, which is (See Datasheet)", 5 ~{RST} (hiz) "Reset Output. This pin is an open-drain pull-down. Pulls low when VM input is below 0.5V and held low for 200ms after VM input is above 0.5V. Also pulls low for 200ms when the watchdog timer (1.6s) is allowed to time out. (See Datasheet)", 6 ~{PFO} (hiz) "Power Fail Output. This pin is an opendrain pull-down which pulls low when the PFI input is below 0.5V. Leave this pin open or tied to GND if power fail monitoring function is not used.", 7 ONT (in) "On Timing Input. Attach 110pF of external capacitance (CONT) to GND for each additional millisecond of turn-on debounce time beyond the internally set 26ms. Leave open if additional debounce time is not needed.", 8 OFFT (in) "Off Timing Input. Attach 110pF of external capacitance (COFFT) to GND for each additional millisecond of turn-off debounce time beyond the internally set 26ms. Leave open if additional debounce time is not needed.", 9 GND (power) "Device Ground.", 10 ~{INT} (hiz) "Interrupt Output. This pin is an open-drain pull-down pin used to signal the system that a power shutdown is imminent. The I\N\T\ pin asserts low 26ms after the initial falling edge of the pushbutton off event and during the (See Datasheet)", 11 EN (hiz) "DC/DC Enable Output. This pin is a high voltage open-drain pull-down used to control system power. EN pin goes high impedance after an initial turn-on command (via either the digital on or a valid pushbutton on-refer to the (See Datasheet)", 12 G2 (out) "Secondary P-Channel MOSFET Gate Drive Output. When the secondary ideal diode function is enabled and in regulation, the ideal diode controller drives this pin to maintain a forward voltage (VFR) of 20mV between the V2 and VS (See Datasheet)", 13 V2 (power) "Secondary Input Supply Voltage: 2.7V to 28V. Supplies power to the internal circuitry and is the anode input of the secondary ideal diode driver (the cathode input to the ideal diode drivers is the VS pin). A secondary power (See Datasheet)", 14 VS (power) "Power Sense Input. This pin supplies power to the internal circuitry and is the cathode input to the ideal diode drivers (the anode inputs to the ideal diode drivers are the V1 and V2 pins). Bypass this pin to ground with (See Datasheet)", 15 V1 (power) "Primary Input Supply Voltage: 2.7V to 28V. Supplies power to the internal circuitry and is the anode input of the primary ideal diode driver (the cathode input to the ideal diode drivers is the VS pin). A battery or other (See Datasheet)", 16 G1 (out) "Primary P-Channel MOSFET Gate Drive Output. When the primary ideal diode function is enabled and in regulation, the ideal diode controller drives this pin to maintain a forward voltage (VFR) of 20mV between the V1 and VS (See Datasheet)", 17 G1S (hiz) "Open-Drain Primary Ideal Diode Status Output. When the primary P-channel power switch is off, the G1STAT pin will go from an open state to a strong pull-down. This pin can be used to signal the state of the primary ideal (See Datasheet)", 18 M2 (in) "Mode Select Input 2. High impedance input to an accurate comparator with 0.5V falling threshold and 15mV hysteresis. When M1 is low, M2 controls whether the primary (G1) ideal diode function is enabled. When M1 is high, M2 (See Datasheet)", 19 M1 (in) "Mode Select Input 1. Input to an accurate comparator with 0.5V falling threshold and 15mV hysteresis. Has a 3uA internal pull-up to an internal supply (4V). Together with M2 determines the ideal PowerPath and on/off control (See Datasheet)", 20 ~{KILL} (in) "System Power Shutdown Input. Setting this pin low asserts the EN pin low. In modes where M1 is above threshold, setting this pin low also shuts off the ideal diodes. During system turn-on, input to this pin is ignored until (See Datasheet)", 21 EP (power) "The exposed pad may be left open or connected to device ground."